# EAGLE library part SI4735-D60 (library dfmt)
Silicon labs Si4730/31/34/35-D60 AM/FM/SW/LW Radio Receiver
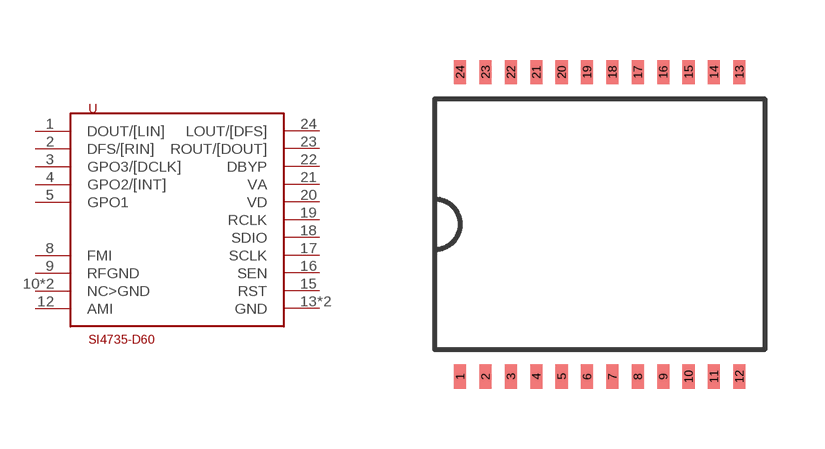
[diagram p0: symbol with the pads of SSOP24; footprint SSOP24]

Designator prefix -

## SI4735-D60-GU  [SSOP24]
1  DOUT/[LIN]
2  DFS/[RIN]
3  GPO3/[DCLK]
4  GPO2/[INT]
5  GPO1
8  FMI  in
9  RFGND
10  NC>GND
11  NC>GND
12  AMI  in
13  GND  pwr
14  GND  pwr
15  RST
16  SEN
17  SCLK
18  SDIO
19  RCLK  in
20  VD  pwr
21  VA  pwr
22  DBYP
23  ROUT/[DOUT]
24  LOUT/[DFS]

## Footprint SSOP24 (pad centres in mm)
SSOP 24 Source: Uploaded by Heiko Künzel <heiko.kuenzel@atg-gera.de> from ATG Automatisierungstechnik Gera Mon Mar 10 13:32:48 2003 Atmel-Library mit zusätzlich T83C5121-Prozessor im SSOP24-Package. Package centre and <NAME & <VALUE placed by librarian@cadsoft.de.
smd 0.305 x 0.61: 1 -3.493,-3.81; 2 -2.857,-3.81; 3 -2.223,-3.81; 4 -1.587,-3.81; 5 -0.953,-3.81; 6 -0.318,-3.81; 7 0.318,-3.81; 8 0.953,-3.81; 9 1.587,-3.81; 10 2.223,-3.81; 11 2.857,-3.81; 12 3.493,-3.81; 13 3.493,3.81; 14 2.857,3.81; 15 2.223,3.81; 16 1.587,3.81; 17 0.953,3.81; 18 0.318,3.81; 19 -0.318,3.81; 20 -0.953,3.81; 21 -1.587,3.81; 22 -2.223,3.81; 23 -2.857,3.81; 24 -3.493,3.81